# Altium footprint library Componentes Deived Projetos PCB.PcbLib: 87 footprints (part 3 of 6)
Each footprint in its own frame and in the unit in brackets; x right, y up, seen from the top. Pads: shape width x height; smd on the part's side, far side on the other; paste and mask are expansions set on the pad; w line width, h text height; cw(c..) or ccw(c..) is an arc to the next point about the centre after c.
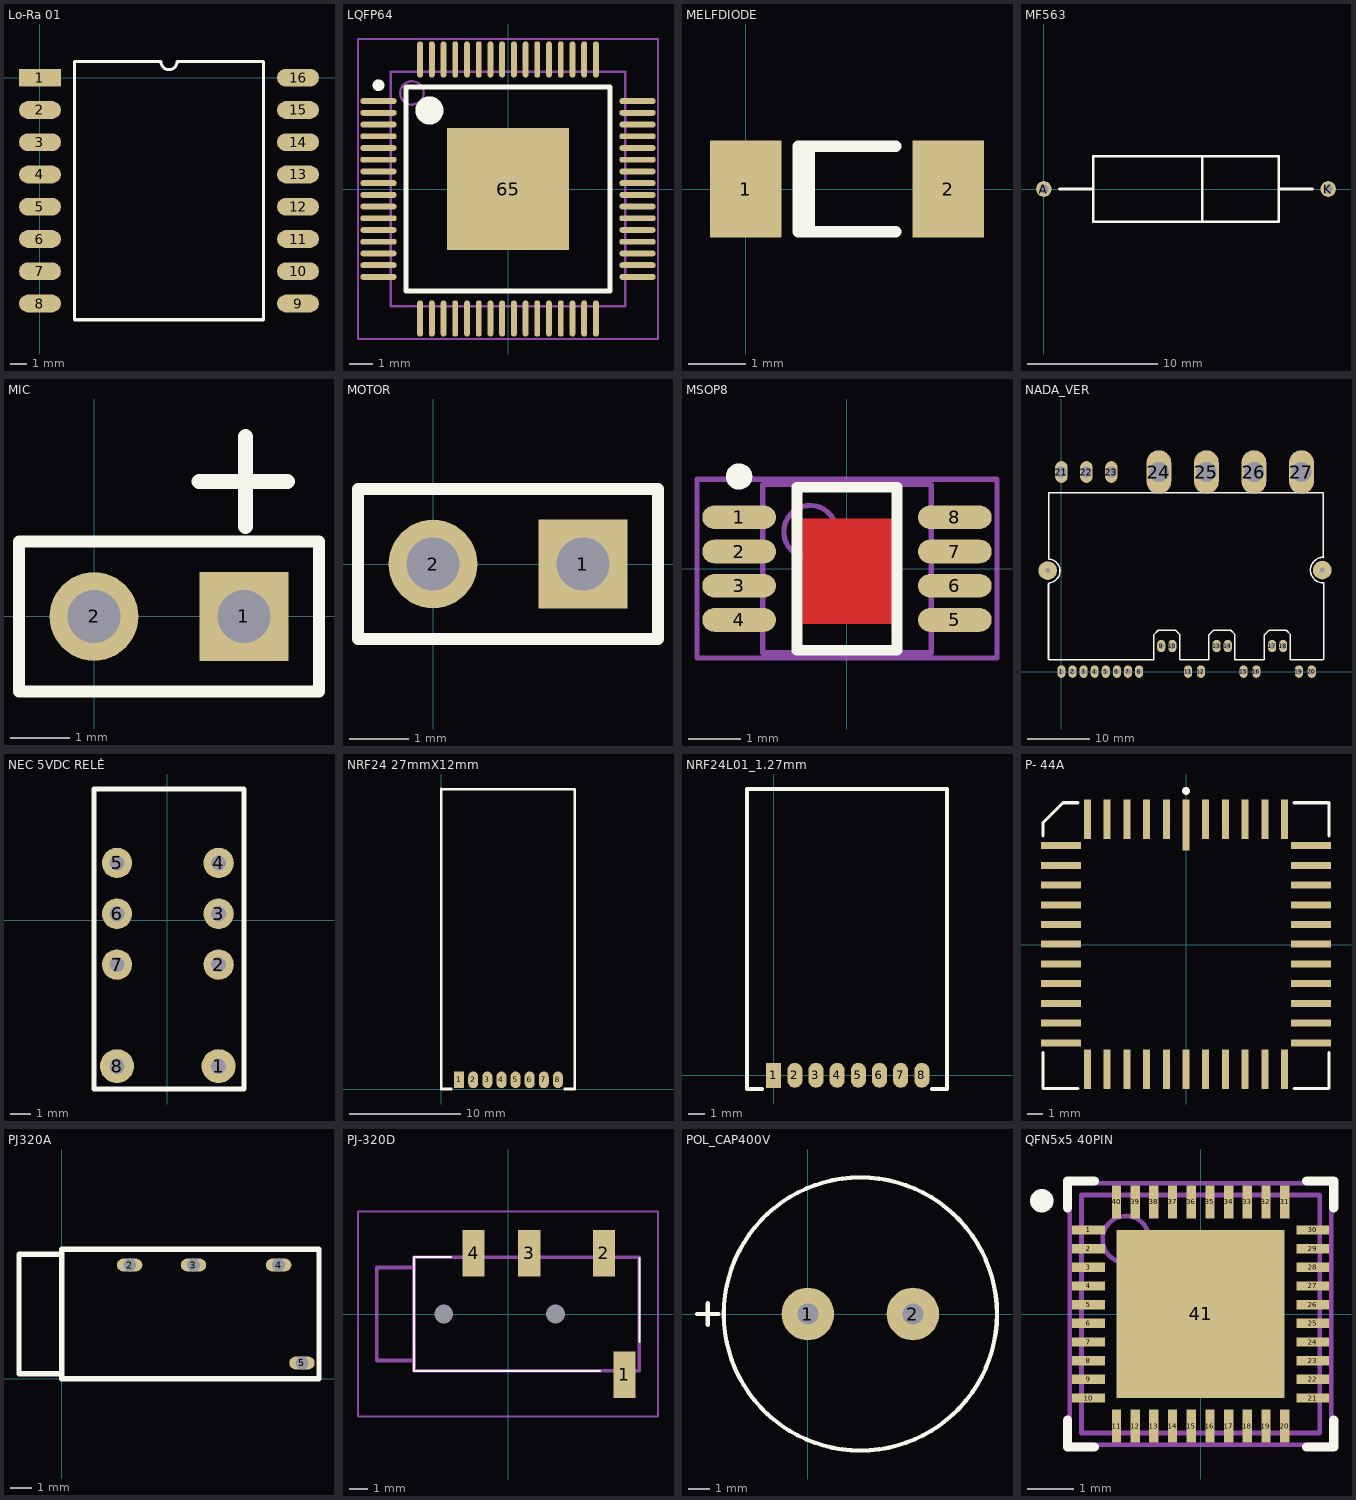
[diagram p2: the footprints below, top view; thin cyan lines are the x and y axes]

## Lo-Ra 01 [mm]
pads (16):
  rect 2.6x1.1 smd: 1(0,0)
  oval 2.6x1.1 smd: 2(0,-2) 3(0,-4) 4(0,-6) 5(0,-8) 6(0,-10) 7(0,-12) 8(0,-14) 9(16,-14) 10(16,-12) 11(16,-10) 12(16,-8) 13(16,-6) 14(16,-4) 15(16,-2) 16(16,0)
Top Overlay:
  lines w0.2: 2.135,-15 13.865,-15 13.865,1 8.5,1 cw(c8,1) 7.5,1 2.135,1 2.135,-15

## LQFP64 [mm]
pads (65):
  oval 1.55x0.25 smd: 1(-5.525,3.75) 2(-5.525,3.25) 3(-5.525,2.75) 4(-5.525,2.25) 5(-5.525,1.75) 6(-5.525,1.25) 7(-5.525,0.75) 8(-5.525,0.25) 9(-5.525,-0.25) 10(-5.525,-0.75) 11(-5.525,-1.25) 12(-5.525,-1.75) 13(-5.525,-2.25) 14(-5.525,-2.75) 15(-5.525,-3.25) 16(-5.525,-3.75) 33(5.525,-3.75) 34(5.525,-3.25) 35(5.525,-2.75) 36(5.525,-2.25) 37(5.525,-1.75) 38(5.525,-1.25) 39(5.525,-0.75) 40(5.525,-0.25) 41(5.525,0.25) 42(5.525,0.75) 43(5.525,1.25) 44(5.525,1.75) 45(5.525,2.25) 46(5.525,2.75) 47(5.525,3.25) 48(5.525,3.75)
  oval 0.25x1.55 smd: 17(-3.75,-5.525) 18(-3.25,-5.525) 19(-2.75,-5.525) 20(-2.25,-5.525) 21(-1.75,-5.525) 22(-1.25,-5.525) 23(-0.75,-5.525) 24(-0.25,-5.525) 25(0.25,-5.525) 26(0.75,-5.525) 27(1.25,-5.525) 28(1.75,-5.525) 29(2.25,-5.525) 30(2.75,-5.525) 31(3.25,-5.525) 32(3.75,-5.525) 49(3.75,5.525) 50(3.25,5.525) 51(2.75,5.525) 52(2.25,5.525) 53(1.75,5.525) 54(1.25,5.525) 55(0.75,5.525) 56(0.25,5.525) 57(-0.25,5.525) 58(-0.75,5.525) 59(-1.25,5.525) 60(-1.75,5.525) 61(-2.25,5.525) 62(-2.75,5.525) 63(-3.25,5.525) 64(-3.75,5.525)
  rect 5.2x5.2 smd: 65(0,0)
Top Overlay:
  circle w0.25: c-5.525,4.425 r0.125
  circle w0.6: c-3.35,3.35 r0.3
  lines w0.2: -4.35,-4.35 -4.35,4.35 4.35,4.35 4.35,-4.35 -4.35,-4.35
Mechanical 13:
  circle w0.1: c-4.1,4.1 r0.5
  lines w0.1: -5,-5 -5,5 5,5 5,-5 -5,-5
Mechanical 15:
  lines w0.1: -0.5,0 0.5,0 ; 0,-0.5 0,0.5 ; -6.4,-6.4 -6.4,6.4 6.4,6.4 6.4,-6.4 -6.4,-6.4
3D body: height 2.2, standoff 0, extent -5,-5 5,5

## MELFDIODE [mm]
pads (2):
  rect 1.25x1.7 smd: 1(0,0) 2(3.55,0)
Top Overlay:
  lines w0.2: 1.115,-0.75 1.115,0.75 ; 2.625,-0.75 0.925,-0.75 0.925,0.75 2.625,0.75

## MF563 [mm]
pads (2):
  round 1.2 hole 0.7: A(0,0) K(21.8,0)
Top Overlay:
  lines w0.2: 1.2,0 3.775,0 ; 12.158,-2.5 12.158,2.5 ; 18.025,0 20.6,0 ; 3.775,0 3.775,2.5 18.025,2.5 18.025,-2.5 3.775,-2.5 3.775,0

## MIC [mm]
pads (2):
  rect 1.5x1.5 hole 0.9: 1(2.54,0)
  round 1.5 hole 0.9: 2(0,0)
Top Overlay:
  lines w0.2: -1.27,-1.27 3.81,-1.27 3.81,1.27 -1.27,1.27 -1.27,-1.27
  lines w0.254: 1.778,2.286 3.275,2.286 ; 2.565,1.524 2.565,3.048

## MOTOR [mm]
pads (2):
  rect 1.5x1.5 hole 0.9: 1(2.54,0)
  round 1.5 hole 0.9: 2(0,0)
Top Overlay:
  lines w0.2: -1.27,-1.27 -1.27,1.27 3.81,1.27 3.81,-1.27 -1.27,-1.27

## MSOP8 [mm]
pads (8):
  oval 1.4x0.45 smd: 1(-2.05,0.975) 2(-2.05,0.325) 3(-2.05,-0.325) 4(-2.05,-0.975) 5(2.05,-0.975) 6(2.05,-0.325) 7(2.05,0.325) 8(2.05,0.975)
Top Layer:
  rectangle: -0.85,-1.05 0.975,0.95
Top Overlay:
  circle w0.25: c-2.05,1.75 r0.125
  lines w0.2: -0.95,-1.55 -0.95,1.55 0.95,1.55 0.95,-1.55 -0.95,-1.55
Mechanical 13:
  circle w0.1: c-0.7,0.7 r0.5
  lines w0.1: -1.6,-1.6 -1.6,1.6 1.6,1.6 1.6,-1.6 -1.6,-1.6
Mechanical 15:
  lines w0.1: -0.5,0 0.5,0 ; 0,-0.5 0,0.5 ; -2.85,-1.7 -2.85,1.7 2.85,1.7 2.85,-1.7 -2.85,-1.7
3D body: height 1.1, standoff 0, extent -1.6,-1.6 1.6,1.6

## NADA_VER [mm]
pads (29):
  oval 1.3x2 hole 0.9: 1(0,0) 2(1.778,0) 3(3.556,0) 4(5.334,0) 5(7.112,0) 6(8.89,0) 7(10.668,0) 8(12.446,0) 9(16.002,4.1) 10(17.78,4.1) 11(20.311,0) 12(22.361,0) 13(24.892,4.1) 14(26.67,4.1) 15(29.201,0) 16(31.251,0) 17(33.782,4.1) 18(35.56,4.1) 19(38.091,0) 20(40.141,0)
  oval 2x3.5 hole 1.7: 21(0,32) 22(4,32) 23(8,32)
  oval 4x7 hole 3.2: 24(15.62,32) 25(23.24,32) 26(30.86,32) 27(38.48,32)
  round 3 hole 0.762: ""(-2.2,16.2) ""(41.825,16.275)
Top Overlay:
  lines w0.254: -2.075,1.975 -2.075,14.1 ; -2,1.9 14.775,1.9 14.775,5.875 15.525,6.625 18.3,6.625 18.975,5.95 18.975,1.9 23.625,1.9 23.625,5.875 24.375,6.625 27.15,6.625 27.825,5.95 27.825,1.9 32.525,1.9 32.525,5.875 33.275,6.625 36.05,6.625 36.725,5.95 36.725,1.9 42,1.9 ; -2,18.05 -2,28.7 42,28.7 42,18.25 ; -1.95,14.225 ccw(c-2.154,16.137) -1.95,18.05 ; 42.075,1.975 42.075,12.5 ; 42.075,10.675 42.075,14.225 cw(c41.977,16.275) 42.075,18.325

## NEC 5VDC RELÉ [mm]
pads (8):
  round 1.7 hole 0.762: 1(2.575,-7.295) 8(-2.505,-7.295)
  round 1.524 hole 0.762: 2(2.575,-2.215) 3(2.575,0.325) 4(2.575,2.865) 5(-2.505,2.865) 6(-2.505,0.325) 7(-2.505,-2.215)
Top Overlay:
  lines w0.254: -3.655,-8.438 -3.655,6.562 3.845,6.562 3.845,-8.438 -3.655,-8.438

## NRF24 27mmX12mm [mm]
pads (8):
  rect 0.9x1.5 smd: 1(1.6,0.825)
  oval 0.9x1.5 smd: 2(2.87,0.825) 3(4.14,0.825) 4(5.41,0.825) 5(6.68,0.825) 6(7.95,0.825) 7(9.22,0.825) 8(10.49,0.825)
Top Overlay:
  lines w0.254: 0,26.975 12,26.975 12,0 11.1,0 ; 0,27 0,0 0.9,0

## NRF24L01_1.27mm [mm]
pads (8):
  rect 0.9x1.5 smd: 1(0,0)
  oval 0.9x1.5 smd: 2(1.27,0) 3(2.54,0) 4(3.81,0) 5(5.08,0) 6(6.35,0) 7(7.62,0) 8(8.89,0)
Top Overlay:
  lines w0.254: -0.7,-0.825 -1.6,-0.825 -1.6,17.175 10.4,17.175 10.4,-0.825 9.5,-0.825

## P- 44A [mm]
pads (44):
  rect 0.45x3.3 smd: 1(-0.005,7.704)
  rect 0.45x2.55 smd: 2(-1.275,8.079) 3(-2.545,8.079) 4(-3.815,8.079) 5(-5.085,8.079) 6(-6.355,8.079) 18(-6.355,-8.021) 19(-5.085,-8.021) 20(-3.815,-8.021) 21(-2.545,-8.021) 22(-1.275,-8.021) 23(-0.005,-8.021) 24(1.265,-8.021) 25(2.535,-8.021) 26(3.805,-8.021) 27(5.075,-8.021) 28(6.345,-8.021) 40(6.345,8.079) 41(5.075,8.079) 42(3.805,8.079) 43(2.535,8.079) 44(1.265,8.079)
  rect 2.55x0.45 smd: 7(-8.055,6.379) 8(-8.055,5.109) 9(-8.055,3.839) 10(-8.055,2.569) 11(-8.055,1.299) 12(-8.055,0.029) 13(-8.055,-1.241) 14(-8.055,-2.511) 15(-8.055,-3.781) 16(-8.055,-5.051) 17(-8.055,-6.321) 29(8.045,-6.321) 30(8.045,-5.051) 31(8.045,-3.781) 32(8.045,-2.511) 33(8.045,-1.241) 34(8.045,0.029) 35(8.045,1.299) 36(8.045,2.569) 37(8.045,3.839) 38(8.045,5.109) 39(8.045,6.379)
Top Overlay:
  circle w0.25: c-0.005,9.904 r0.125
  lines w0.2: -9.205,-6.946 -9.205,-9.259 -6.98,-9.259 ; -9.205,7.004 -9.205,7.866 -7.93,9.141 -6.98,9.141 ; 6.97,-9.259 9.195,-9.259 9.195,-6.946 ; 6.97,9.141 9.195,9.141 9.195,7.004

## PJ320A [mm]
pads (4):
  oval 1.2x0.6 hole 0.6: 2(3.2,5.35) 3(6.2,5.35) 4(10.2,5.35) 5(11.3,0.75)
Top Overlay:
  lines w0.254: -0.05,0.25 -2,0.25 -2,5.85 -0.025,5.85 ; 0,0 12.1,0 12.1,6.1 0,6.1 0,0

## PJ-320D [mm]
pads (6):
  rect 1.2x2.5 smd: 1(6.25,-3.25) 2(5.15,3.25) 3(1.15,3.25) 4(-1.85,3.25)
  round 0.5 hole 1 unplated: MH1(-3.45,0) MH2(2.55,0)
Top Overlay:
  lines w0.1: -3.05,3.05 -5.05,3.05 -5.05,-3.05 4.95,-3.05 ; 7.05,-1.5 7.05,3
Mechanical 13:
  lines w0.2: -7.05,-2.5 -7.05,2.5 -5.05,2.5 -5.05,-2.5 -7.05,-2.5 ; -5.05,-3.05 7.05,-3.05 7.05,3.05 -5.05,3.05 -5.05,-3.05
Mechanical 15:
  lines w0.1: -8.05,-5.5 8.05,-5.5 8.05,5.5 -8.05,5.5 -8.05,-5.5

## POL_CAP400V [mm]
pads (2):
  round 2.5 hole 1: 1(0,0) 2(5,0)
Top Overlay:
  circle w0.2: c2.5,0 r6.5
  lines w0.2: -5.275,0 -4.259,0 ; -4.767,-0.508 -4.767,0.508

## QFN5x5 40PIN [mm]
pads (41):
  rect 0.7x0.2 smd paste-0.125 mask+0.051: 1(-2.4,1.8) 2(-2.4,1.4) 3(-2.4,1) 4(-2.4,0.6) 5(-2.4,0.2) 6(-2.4,-0.2) 7(-2.4,-0.6) 8(-2.4,-1) 9(-2.4,-1.4) 10(-2.4,-1.8) 21(2.4,-1.8) 22(2.4,-1.4) 23(2.4,-1) 24(2.4,-0.6) 25(2.4,-0.2) 26(2.4,0.2) 27(2.4,0.6) 28(2.4,1) 29(2.4,1.4) 30(2.4,1.8)
  rect 0.2x0.7 smd paste-0.125 mask+0.051: 11(-1.8,-2.4) 12(-1.4,-2.4) 13(-1,-2.4) 14(-0.6,-2.4) 15(-0.2,-2.4) 16(0.2,-2.4) 17(0.6,-2.4) 18(1,-2.4) 19(1.4,-2.4) 20(1.8,-2.4) 31(1.8,2.4) 32(1.4,2.4) 33(1,2.4) 34(0.6,2.4) 35(0.2,2.4) 36(-0.2,2.4) 37(-0.6,2.4) 38(-1,2.4) 39(-1.4,2.4) 40(-1.8,2.4)
  rect 3.6x3.6 smd paste-1.8 mask+0.051: 41(0,0)
Top Overlay:
  circle w0.25: c-3.4,2.425 r0.125
  lines w0.2: -2.85,-2.275 -2.85,-2.85 -2.275,-2.85 ; -2.85,2.275 -2.85,2.85 -2.275,2.85 ; 2.275,-2.85 2.85,-2.85 2.85,-2.275 ; 2.275,2.85 2.85,2.85 2.85,2.275
Top Paste:
  region: 2.9,-1.7 2.2,-1.7 2.2,-1.9 2.9,-1.9
  region: 2.9,-1.3 2.2,-1.3 2.2,-1.5 2.9,-1.5
  region: 2.9,-0.5 2.2,-0.5 2.2,-0.7 2.9,-0.7
  region: 2.9,-0.9 2.2,-0.9 2.2,-1.1 2.9,-1.1
  region: 2.9,1.9 2.2,1.9 2.2,1.7 2.9,1.7
  region: 2.9,1.1 2.2,1.1 2.2,0.9 2.9,0.9
  region: 2.9,1.5 2.2,1.5 2.2,1.3 2.9,1.3
  region: 2.9,0.7 2.2,0.7 2.2,0.5 2.9,0.5
  region: 2.9,0.3 2.2,0.3 2.2,0.1 2.9,0.1
  region: 2.9,-0.1 2.2,-0.1 2.2,-0.3 2.9,-0.3
  rectangle: -2.9,-0.3 -2.2,-0.1
  rectangle: -2.9,0.1 -2.2,0.3
  rectangle: -2.9,0.5 -2.2,0.7
  rectangle: -2.9,1.3 -2.2,1.5
  rectangle: -2.9,0.9 -2.2,1.1
  rectangle: -2.9,1.7 -2.2,1.9
  rectangle: -2.9,-1.1 -2.2,-0.9
  rectangle: -2.9,-0.7 -2.2,-0.5
  rectangle: -2.9,-1.5 -2.2,-1.3
  rectangle: -2.9,-1.9 -2.2,-1.7
  region: 1.9,-2.9 1.9,-2.2 1.7,-2.2 1.7,-2.9
  region: 1.5,-2.9 1.5,-2.2 1.3,-2.2 1.3,-2.9
  region: 0.7,-2.9 0.7,-2.2 0.5,-2.2 0.5,-2.9
  region: 1.1,-2.9 1.1,-2.2 0.9,-2.2 0.9,-2.9
  region: -1.7,-2.9 -1.7,-2.2 -1.9,-2.2 -1.9,-2.9
  region: -0.9,-2.9 -0.9,-2.2 -1.1,-2.2 -1.1,-2.9
  region: -1.3,-2.9 -1.3,-2.2 -1.5,-2.2 -1.5,-2.9
  region: -0.5,-2.9 -0.5,-2.2 -0.7,-2.2 -0.7,-2.9
  region: -0.1,-2.9 -0.1,-2.2 -0.3,-2.2 -0.3,-2.9
  region: 0.3,-2.9 0.3,-2.2 0.1,-2.2 0.1,-2.9
  region: 0.1,2.9 0.1,2.2 0.3,2.2 0.3,2.9
  region: -0.3,2.9 -0.3,2.2 -0.1,2.2 -0.1,2.9
  region: -0.7,2.9 -0.7,2.2 -0.5,2.2 -0.5,2.9
  region: -1.5,2.9 -1.5,2.2 -1.3,2.2 -1.3,2.9
  region: -1.1,2.9 -1.1,2.2 -0.9,2.2 -0.9,2.9
  region: -1.9,2.9 -1.9,2.2 -1.7,2.2 -1.7,2.9
  region: 0.9,2.9 0.9,2.2 1.1,2.2 1.1,2.9
  region: 0.5,2.9 0.5,2.2 0.7,2.2 0.7,2.9
  region: 1.3,2.9 1.3,2.2 1.5,2.2 1.5,2.9
  region: 1.7,2.9 1.7,2.2 1.9,2.2 1.9,2.9
  rectangle: 0.1,0.1 1.6,1.6
  region: -0.1,1.6 -1.6,1.6 -1.6,0.1 -0.1,0.1
  region: -0.1,-0.1 -1.6,-0.1 -1.6,-1.6 -0.1,-1.6
  rectangle: 0.1,-1.6 1.6,-0.1
Mechanical 13:
  circle w0.1: c-1.6,1.6 r0.5
  lines w0.1: -2.55,-2.55 2.55,-2.55 2.55,2.55 -2.55,2.55 -2.55,-2.55
Mechanical 15:
  lines w0.1: -0.5,0 0.5,0 ; 0,-0.5 0,0.5 ; -2.8,-2.8 -2.8,2.8 2.8,2.8 2.8,-2.8 -2.8,-2.8
3D body: height 0.8, standoff 0, extent -2.55,-2.55 2.55,2.55